# Altium integrated library Analog Devices AD converter.IntLib: 5 symbols
Pins are listed as number, name and electrical type; pins without a type are passive.

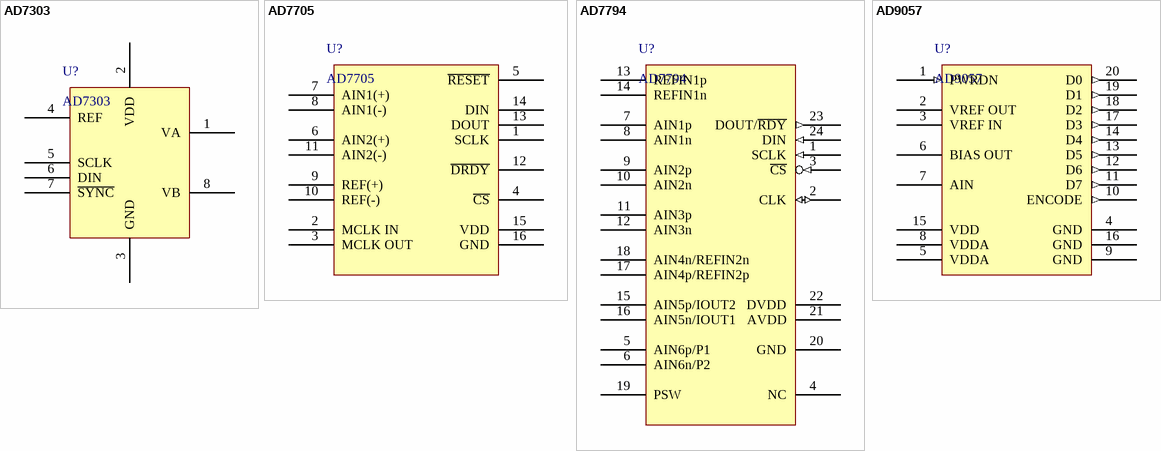
[diagram p0: symbols AD7303 to AD9057]

## AD7303
designator U?
AD two channel analog to digital convertor
footprint SO-8_L (8-Pin Small Outline Integrated Circuit 1.27 mm Pitch, IPC High Density)
footprint SO-8_M (8-Pin Small Outline Integrated Circuit 1.27 mm Pitch, IPC Low Density)
footprint SO-8_N (8-Pin Small Outline Integrated Circuit 1.27 mm Pitch, IPC Medium Density)
pins: 1 VA, 2 VDD, 3 GND, 4 REF, 5 SCLK, 6 DIN, 7 ~{SYNC}, 8 VB

## AD7705
designator U?
Delta sigma Analog to Digital 16bit convertor
footprint SOL-16_L (16-Pin Small Outline Integrated Circuit 1.27 mm Pitch, IPC High Density)
footprint SOL-16_M (16-Pin Small Outline Integrated Circuit 1.27 mm Pitch, IPC Low Density)
footprint SOL-16_N (16-Pin Small Outline Integrated Circuit 1.27 mm Pitch, IPC Medium Density)
pins: 1 SCLK, 2 MCLK IN, 3 MCLK OUT, 4 ~{CS}, 5 ~{RESET}, 6 AIN2(+), 7 AIN1(+), 8 AIN1(-), 9 REF(+), 10 REF(-), 11 AIN2(-), 12 ~{DRDY}, 13 DOUT, 14 DIN, 15 VDD, 16 GND

## AD7794
designator U?
Sigma-Delta ADC with On-Chip In-Amp and Reference; Manufacturer: Analog Devices
footprint TSSOP-24_M
pins: 1 SCLK (in), 2 CLK (io), 3 ~{CS} (in), 4 NC, 5 AIN6p/P1, 6 AIN6n/P2, 7 AIN1p, 8 AIN1n, 9 AIN2p, 10 AIN2n, 11 AIN3p, 12 AIN3n, 13 REFIN1p, 14 REFIN1n, 15 AIN5p/IOUT2, 16 AIN5n/IOUT1, 17 AIN4p/REFIN2p, 18 AIN4n/REFIN2n, 19 PSW, 20 GND, 21 AVDD, 22 DVDD, 23 DOUT/~{RDY} (out), 24 DIN (in)

## AD9057
designator U?
8-Bit 40 MSPS/60 MSPS/80 MSPS A/D Converter; Manufacturer: Analog Devices
footprint SSOP-20_M
pins: 1 PWRDN (in), 2 VREF OUT, 3 VREF IN, 4 GND, 5 VDDA, 6 BIAS OUT, 7 AIN, 8 VDDA, 9 GND, 10 ENCODE (out), 11 D7 (out), 12 D6 (out), 13 D5 (out), 14 D4 (out), 15 VDD, 16 GND, 17 D3 (out), 18 D2 (out), 19 D1 (out), 20 D0 (out)


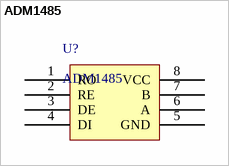
[diagram p1: symbol ADM1485]

## ADM1485
designator U?
5 V Low Power  EIA RS-485 Transceiver
footprint SO-8_L (8-Pin Small Outline Integrated Circuit 1.27 mm Pitch, IPC High Density)
footprint SO-8_M (8-Pin Small Outline Integrated Circuit 1.27 mm Pitch, IPC Low Density)
footprint SO-8_N (8-Pin Small Outline Integrated Circuit 1.27 mm Pitch, IPC Medium Density)
pins: 1 RO, 2 RE, 3 DE, 4 DI, 5 GND, 6 A, 7 B, 8 VCC